# Altium footprint library passives.PCBLIB: 93 footprints (part 6 of 6)
Each footprint in its own frame and in the unit in brackets; x right, y up, seen from the top. Pads: shape width x height; smd on the part's side, far side on the other; paste and mask are expansions set on the pad; w line width, h text height; cw(c..) or ccw(c..) is an arc to the next point about the centre after c.
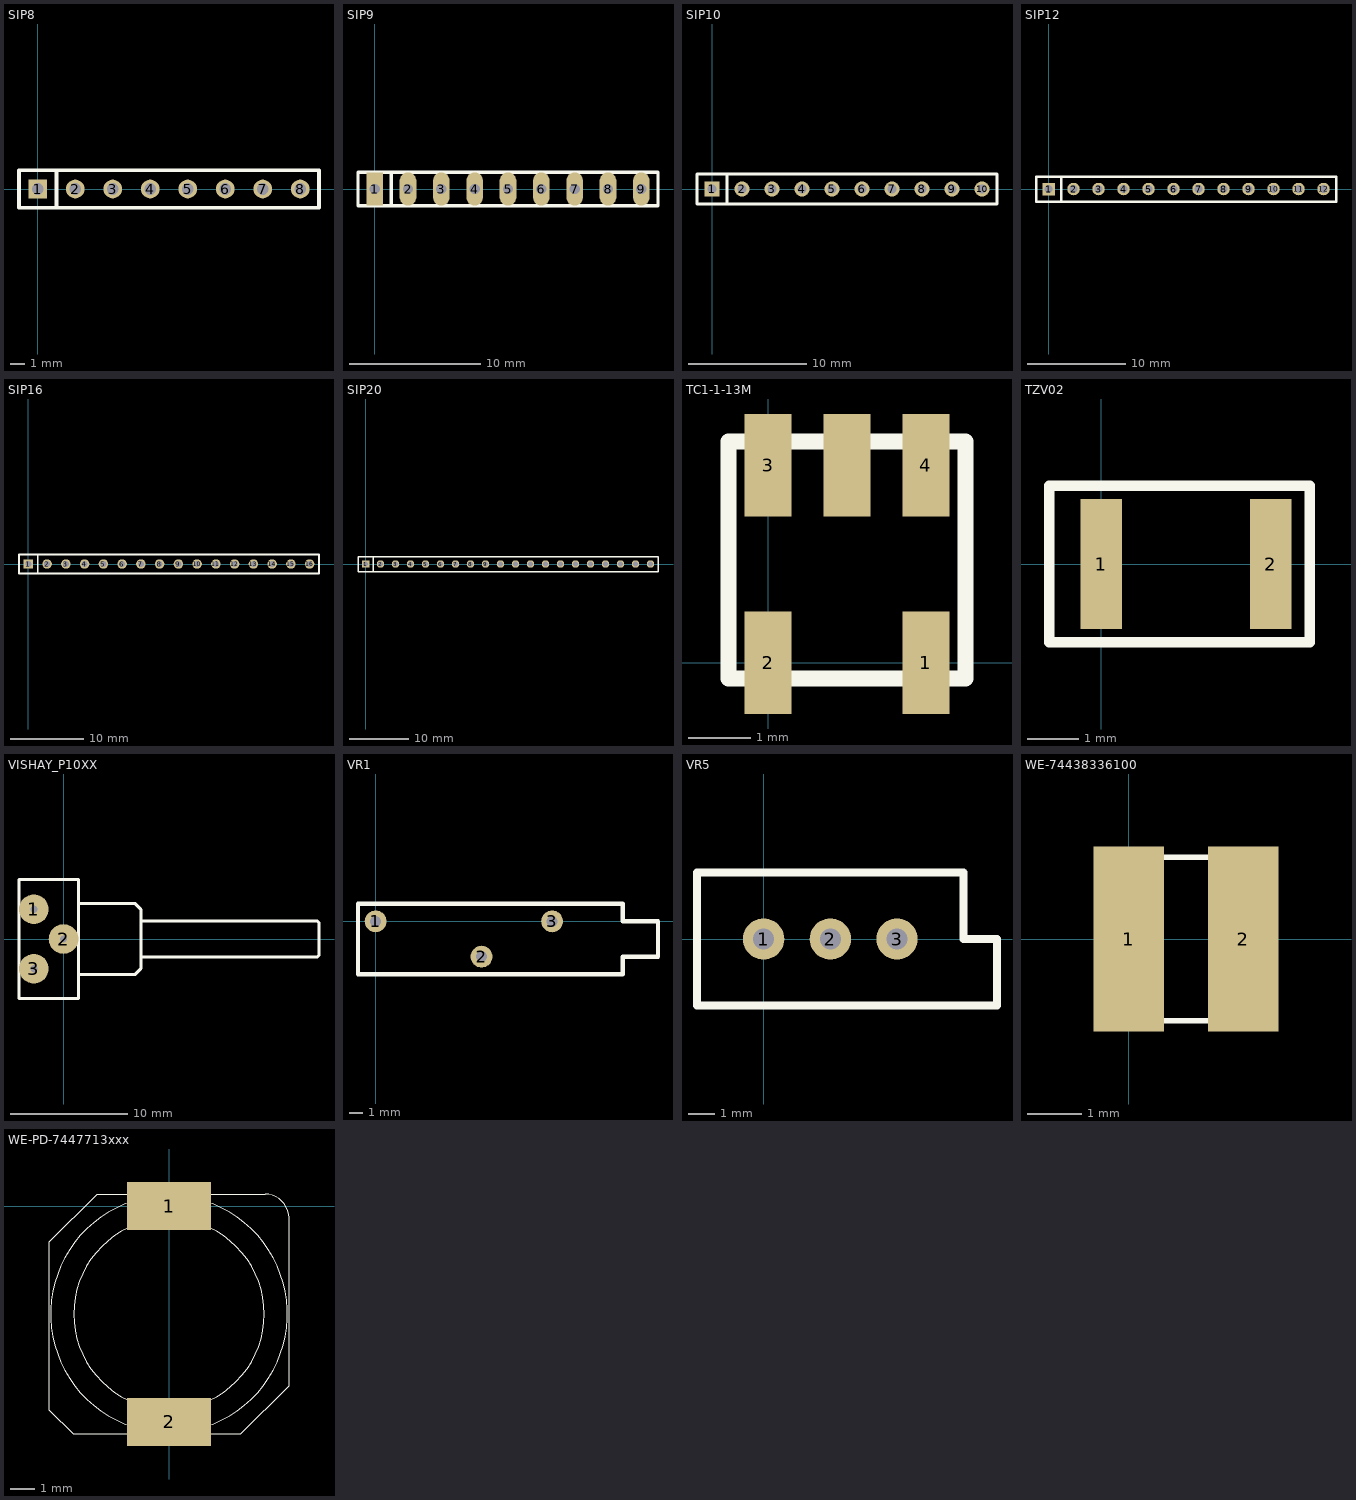
[diagram p5: the footprints below, top view; thin cyan lines are the x and y axes]

## SIP8 [mm]
pads (8):
  rect 1.27x1.27 hole 0.8: 1(0,0)
  round 1.27 hole 0.8: 2(2.54,0) 3(5.08,0) 4(7.62,0) 5(10.16,0) 6(12.7,0) 7(15.24,0) 8(17.78,0)
Top Overlay:
  lines w0.254: 1.27,-1.27 1.27,1.27 ; -1.27,-1.27 19.05,-1.27 19.05,1.27 -1.27,1.27 -1.27,-1.27

## SIP9 [mm]
pads (9):
  rect 1.27x2.54 hole 0.8: 1(0,0)
  oval 1.27x2.54 hole 0.8: 2(2.54,0) 3(5.08,0) 4(7.62,0) 5(10.16,0) 6(12.7,0) 7(15.24,0) 8(17.78,0) 9(20.32,0)
Top Overlay:
  lines w0.254: 1.27,-1.27 1.27,1.27 ; -1.27,-1.27 21.59,-1.27 21.59,1.27 -1.27,1.27 -1.27,-1.27

## SIP10 [mm]
pads (10):
  rect 1.27x1.27 hole 0.8: 1(0,0)
  round 1.27 hole 0.8: 2(2.54,0) 3(5.08,0) 4(7.62,0) 5(10.16,0) 6(12.7,0) 7(15.24,0) 8(17.78,0) 9(20.32,0) 10(22.86,0)
Top Overlay:
  lines w0.254: 1.27,-1.27 1.27,1.27 ; -1.27,-1.27 24.13,-1.27 24.13,1.27 -1.27,1.27 -1.27,-1.27

## SIP12 [mm]
pads (12):
  rect 1.27x1.27 hole 0.8: 1(0,0)
  round 1.27 hole 0.8: 2(2.54,0) 3(5.08,0) 4(7.62,0) 5(10.16,0) 6(12.7,0) 7(15.24,0) 8(17.78,0) 9(20.32,0) 10(22.86,0) 11(25.4,0) 12(27.94,0)
Top Overlay:
  lines w0.254: 1.27,-1.27 1.27,1.27 ; -1.27,-1.27 29.21,-1.27 29.21,1.27 -1.27,1.27 -1.27,-1.27

## SIP16 [mm]
pads (16):
  rect 1.27x1.27 hole 0.8: 1(0,0)
  round 1.27 hole 0.8: 2(2.54,0) 3(5.08,0) 4(7.62,0) 5(10.16,0) 6(12.7,0) 7(15.24,0) 8(17.78,0) 9(20.32,0) 10(22.86,0) 11(25.4,0) 12(27.94,0) 13(30.48,0) 14(33.02,0) 15(35.56,0) 16(38.1,0)
Top Overlay:
  lines w0.254: 1.27,-1.27 1.27,1.27 ; -1.27,-1.27 39.37,-1.27 39.37,1.27 -1.27,1.27 -1.27,-1.27

## SIP20 [mm]
pads (20):
  rect 1.27x1.27 hole 0.8: 1(0,0)
  round 1.27 hole 0.8: 2(2.54,0) 3(5.08,0) 4(7.62,0) 5(10.16,0) 6(12.7,0) 7(15.24,0) 8(17.78,0) 9(20.32,0) 10(22.86,0) 11(25.4,0) 12(27.94,0) 13(30.48,0) 14(33.02,0) 15(35.56,0) 16(38.1,0) 17(40.64,0) 18(43.18,0) 19(45.72,0) 20(48.26,0)
Top Overlay:
  lines w0.254: 1.27,-1.27 1.27,1.27 ; -1.27,-1.27 -1.27,1.27 49.53,1.27 49.53,-1.27 -1.27,-1.27

## TC1-1-13M [mil]
pads (5):
  rect 30x65 smd: 1(100,0) 2(0,0) 3(0,125) 4(100,125) ""(50,125)
Top Overlay:
  lines w10: -25,-10 -25,140 125,140 125,-10 -25,-10

## TZV02 [mil]
pads (2):
  rect 32x100 smd: 1(0,0) 2(130,0)
Top Overlay:
  lines w8: -40,-60 160,-60 160,60 -40,60 -40,-60

## VISHAY_P10XX [mil]
pads (3):
  round 100 hole 24: 1(-100,100) 2(0,0) 3(-100,-100)
Top Overlay:
  lines w10: 50,-120 240,-120 260,-100 260,100 240,120 50,120 ; 260,-60 855,-60 860,-55 860,0 860,55 855,60 260,60 ; -150,-200 -150,200 50,200 50,-200 -150,-200

## VR1 [mil]
pads (3):
  round 62 hole 31.5: 1(0,0) 2(300,-100) 3(500,0)
Top Overlay:
  lines w12: -50,-150 700,-150 700,-100 800,-100 800,0 700,0 700,50 -50,50 -50,-150

## VR5 [mil]
pads (3):
  round 62 hole 31.5: 1(0,0) 2(100,0) 3(200,0)
Top Overlay:
  lines w12: -100,-100 350,-100 350,0 300,0 300,100 -100,100 -100,-100

## WE-74438336100 [mm]
pads (2):
  rect 1.3x3.4 smd: 1(0,0) 2(2.1,0)
Top Overlay:
  lines w0.1: -0.4,-1.5 -0.4,1.5 2.6,1.5 2.6,-1.5 -0.4,-1.5

## WE-PD-7447713xxx [mm]
pads (2):
  rect 3.5x2 smd: 1(0,0) 2(0,-9)
Top Overlay:
  circle w0.051: c0,-4.5 r3.97
  lines w0.05: -5,-7.5 -5,-1.5 ; -5,-7.4 -5,-8.5 ; -1.5,-9.5 -1.5,-8.5 1.5,-8.5 1.5,-9.5 ; -1.5,0.5 -1.5,-0.5 1.5,-0.5 1.5,0.5 ; -5,-8.5 -5,-8.5 ; -5,-8.5 -4,-9.5 -2.7,-9.5 2.7,-9.5 3,-9.5 5,-7.5 ; -5,-1.5 -3,0.5 3.5,0.5 4,0.5 ; -5,-1.5 -5,-1.5 ; 4,0.5 cw(c4,-0.5) 5,-0.5 5,-6.5 5,-7.5 ; 4,0.5 4,0.5 ; 5,-7.5 5,-7.5
  lines w0.051: -1.5,-9.2 cw(c0,-4.5) -1.5,0.2 ; 1.5,-9.2 ccw(c0,-4.5) 1.5,0.2